# Altium integrated library STM32_BluePill_1v0.IntLib: 18 symbols
Pins are listed as number, name and electrical type; pins without a type are passive.

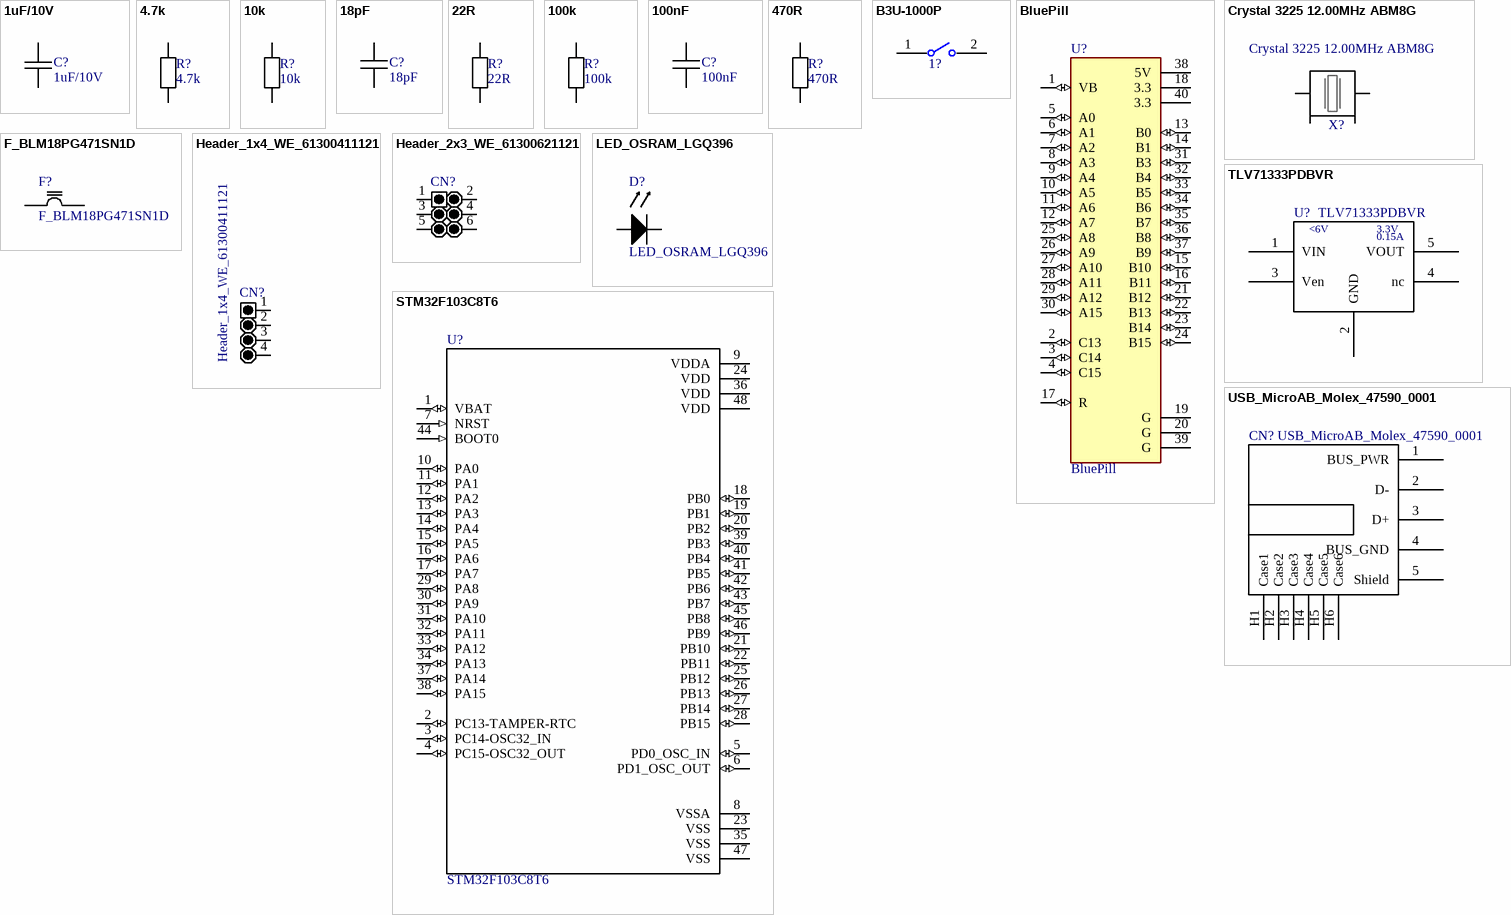
[diagram p0: symbols 1uF/10V to USB_MicroAB_Molex_47590_0001]

## 1uF/10V
designator C?
CAP CER 1UF 10V X5R 0603; Manufacturer: Murata; Manufacturer Part Number: GRM188R61A105KA61D; Library: S_C_1608_MURATA_GRM_X5R; HelpURL: D:\MPA_ALTIUM_LIB\Released\SCH_Passive\Datasheet\Murata_Caps.pdf; Rev: 2.1; Supplier 1: Digikey; Supplier Part Number 1: 490-1543-2-ND; Supplier 2: Farnell; Supplier Part Number 2: 1828798RL; Supplier Part Number 3: 81-GRM39R105K10; Supplier 3: Mouser
footprint CAPC1608_08 (Chip Capacitor, Body 1.6x0.8x0.8mm)
pins: 1, 2

## 4.7k
designator R?
RES 4.7k OHM 1/10W 1% 0603 SMD; Manufacturer: Yageo; Manufacturer Part Number: RC0603FR-074K7L; Library: S_R_1608_Yaego_RC; HelpURL: D:\MPA_ALTIUM_LIB\Released\SCH_Passive\Datasheet\YAEGO_resistor.pdf; Rev: 2.1; Supplier 1: Digikey; Supplier Part Number 1: 311-4.70KHRTR-ND; Supplier 2: Farnell; Supplier Part Number 2: 9238565; Supplier Part Number 3: 603-RC0603FR-074K7L; Supplier 3: Mouser
footprint RES1608_04 (Thick Film Resistor, Body 1.6x0.8x0.45mm)
pins: 1, 2

## 10k
designator R?
RES 10.0K OHM 1/10W 1% 0603 SMD; Manufacturer: Panasonic - ECG; Manufacturer Part Number: ERJ-3EKF1002V; Power (Watts): 0.1W, 1/10W; Temperature Coefficient: ±100ppm/°C; Power Rating: 100 mW; Resistance: 10 kOhms; Voltage Rating: 75 V; Brand: Panasonic; Case Height: 0.45 mm; Case Length: 1.6 mm; Case Width: 0.8 mm; Library: S_R_1608_Panasonic_ERJ; HelpURL: D:\MPA_ALTIUM_LIB\Released\SCH_Passive\Datasheet\Panasonic_ERJ.pdf; Rev: 2.0; Supplier 1: Digi-Key; Supplier Part Number 1: P10.0KHCT-ND; Pricing 1: 1=0.08, 50=0.0124, 100=0.0094, 250=0.00692, 500=0.00512, 1000=0.00342, 2500=0.00289 (EUR); Packaging: Cut Tape (CT); Resistance (Ohms): 10k; Tolerance: ±1%; Composition: Thick Film; Features: -; Package / Case: 0603 (1608 Metric); Supplier Device Package: 0603; Size / Dimension: 0.063" L x 0.031" W (1.60mm x 0.80mm); Height: 0.022" (0.55mm); Number of Terminations: 2; ComponentLink1URL: http://industrial.panasonic.com/www-cgi/jvcr13pz.cgi?E+PZ+3+AOA0002+ERJ3EKF1002V+7+WW; ComponentLink1Description: http://industrial.panasonic.com/www-cgi/jvcr13pz.cgi?E+PZ+3+AOA0002+ERJ3EKF1002V+7+WW; Supplier 2: Farnell; Supplier Part Number 2: 2303192; Pricing 2: 5=0,0538, 50=0,0113, 100=0,0088, 500=0,005, 1000=0,0038, 5000=0,0025 (EUR); ComponentLink2URL: http://www.farnell.com/datasheets/1678782.pdf; ComponentLink2Description: http://www.farnell.com/datasheets/1678782.pdf; ComponentLink3URL: http://www.farnell.com/datasheets/1718548.pdf; ComponentLink3Description: http://www.farnell.com/datasheets/1718548.pdf; Supplier Part Number 3: 667-ERJ-3EKF1002V; Pricing 3: 1=0.080, 10=0.011, 100=0.007, 500=0.006, 1000=0.003, 5000=0.003 (EUR); Operating Temperature Range: - 55 C to + 155 C; Package/Case: 0603 (1608 metric); Product: Thick Film Resistors SMD; Series: ERJ; Type: Precision Thick Film Resistors SMD; Case Code - in: 0603; Case Code - mm: 1608; Standard Pack Qty: 5000; RoHS - Mouser: E; Minimum Order Quantity: 1; Reeling: True; ComponentLink4URL: http://industrial.panasonic.com/www-data/pdf/AOA0000/AOA0000CE2.pdf; ComponentLink4Description: http://industrial.panasonic.com/www-data/pdf/AOA0000/AOA0000CE2.pdf
footprint RES1608_04 (Thick Film Resistor, Body 1.6x0.8x0.45mm)
pins: 1, 2

## 18pF
designator C?
CAP CER 18PF 50V 5% C0G 0603; Manufacturer: Murata Electronics North America; Manufacturer Part Number: GRM1885C1H180JA01D; Temperature Coefficient: C0G, NP0; Type: General Purpose MLCC; Brand: Murata Electronics; Case Height: 0.8 mm; Case Length: 1.6 mm; Dielectric: C0G (NP0); Temperature Coefficient / Code: +/- 30 PPM / C; Library: S_C_1608_MURATA_GRM; HelpURL: D:\MPA_ALTIUM_LIB\Released\SCH_Passive\Datasheet\Murata_Caps.pdf; Supplier 1: Digi-Key; Supplier Part Number 1: 490-1409-1-ND; Pricing 1: 100=0.0306, 500=0.01632, 1000=0.01105 (USD); Capacitance: 18pF; Voltage - Rated: 50V; Tolerance: ±5%; Mounting Type: Surface Mount, MLCC; Operating Temperature: -55°C ~ 125°C; Features: -; Applications: General Purpose; Ratings: -; Package / Case: 0603 (1608 Metric); Size / Dimension: 0.063" L x 0.031" W (1.60mm x 0.80mm); Lead Spacing: -; Packaging: Cut Tape (CT); Lead Style: -; ComponentLink1URL: http://search.murata.co.jp/Ceramy/image/img/PDF/ENG/GRM1885C1H180JA01.pdf; ComponentLink1Description: http://search.murata.co.jp/Ceramy/image/img/PDF/ENG/GRM1885C1H180JA01.pdf; Supplier 2: Farnell; Supplier Part Number 2: 1828908RL; Pricing 2: 10=0,03, 100=0,022, 500=0,017, 1000=0,012, 4000=0,01, 6000=0,009 (EUR); ComponentLink2URL: http://www.farnell.com/datasheets/608985.pdf; ComponentLink2Description: http://www.farnell.com/datasheets/608985.pdf; Supplier Part Number 3: 81-GRM39C180J50; Pricing 3: 1=0.135, 10=0.031, 100=0.019, 1000=0.015, 4000=0.011, 8000=0.009 (AUD); Operating Temperature Range: - 55 C to + 125 C; Product: General Type MLCCs; Series: GRM; Termination Style: SMD/SMT; Voltage Rating: 50 V; Voltage Rating DC: 50 V; Case Code - in: 0603; Case Code - mm: 1608; Case Width: 0.8 mm; Maximum Operating Temperature: + 125 C; Minimum Operating Temperature: - 55 C; Product Category: Low & Medium Capacitance SMD Ceramic Chip Capacitors; Standard Pack Qty: 4000; RoHS - Mouser: Y; Minimum Order Quantity: 1; Reeling: True; ComponentLink3URL: http://psearch.murata.com/capacitor/product/GRM1885C1H180JA01%23.pdf; ComponentLink3Description: http://psearch.murata.com/capacitor/product/GRM1885C1H180JA01%23.pdf; Rev: 2.0
footprint CAPC1608_08 (Chip Capacitor, Body 1.6x0.8x0.8mm)
pins: 1, 2

## 22R
designator R?
RES 22R OHM 1/10W 1% 0603 SMD; Manufacturer: Yageo; Manufacturer Part Number: RC0603FR-0722RL; Library: S_R_1608_Yaego_RC; HelpURL: D:\MPA_ALTIUM_LIB\Released\SCH_Passive\Datasheet\YAEGO_resistor.pdf; Rev: 2.1; Supplier 1: Digikey; Supplier Part Number 1: 311-22.0HRTR-ND; Supplier 2: Farnell; Supplier Part Number 2: 9238280; Supplier Part Number 3: 603-RC0603FR-0722RL; Supplier 3: Mouser
footprint RES1608_04 (Thick Film Resistor, Body 1.6x0.8x0.45mm)
pins: 1, 2

## 100k
designator R?
RES 100K OHM 1/10W 1% 0603 SMD; Manufacturer: Panasonic - ECG; Manufacturer Part Number: ERJ-3EKF1003V; Power (Watts): 0.1W, 1/10W; Temperature Coefficient: ±100ppm/°C; Produktpalette: PANASONIC - ERJ Series; Widerstand: 100; Bauform: 0603 [Metrisch 1608]; Widerstandselement: Dickschicht; Temperaturkoeffizient: ± 100; Nennspannung: 75; Verpackung: Gurtabschnitt; SVHC: No SVHC (16-Dec-2013); Power Rating: 100 mW; Resistance: 100 kOhms; Voltage Rating: 75 V; Brand: Panasonic; Case Height: 0.45 mm; Case Length: 1.6 mm; Case Width: 0.8 mm; Library: S_R_1608_Panasonic_ERJ; HelpURL: D:\MPA_ALTIUM_LIB\Released\SCH_Passive\Datasheet\Panasonic_ERJ.pdf; Rev: 2.0; Supplier 1: Digi-Key; Supplier Part Number 1: P100KHCT-ND; Pricing 1: 1=0.08, 50=0.0124, 100=0.0094, 250=0.00692, 500=0.00512, 1000=0.00342, 2500=0.00289 (EUR); Packaging: Cut Tape (CT); Resistance (Ohms): 100k; Tolerance: ±1%; Composition: Thick Film; Features: -; Package / Case: 0603 (1608 Metric); Supplier Device Package: 0603; Size / Dimension: 0.063" L x 0.031" W (1.60mm x 0.80mm); Height: 0.022" (0.55mm); Number of Terminations: 2; ComponentLink1URL: http://industrial.panasonic.com/www-cgi/jvcr13pz.cgi?E+PZ+3+AOA0002+ERJ3EKF1003V+7+WW; ComponentLink1Description: http://industrial.panasonic.com/www-cgi/jvcr13pz.cgi?E+PZ+3+AOA0002+ERJ3EKF1003V+7+WW; Supplier 2: Farnell; Supplier Part Number 2: 2303232; Pricing 2: 5=0,0538, 50=0,0113, 100=0,0088, 500=0,005, 1000=0,0038, 5000=0,0025 (EUR); Nennleistung: 100; Widerstandstoleranz: ± 1%; MSL: -; ComponentLink2URL: http://www.farnell.com/datasheets/1678782.pdf; ComponentLink2Description: http://www.farnell.com/datasheets/1678782.pdf; ComponentLink3URL: http://www.farnell.com/datasheets/1718548.pdf; ComponentLink3Description: http://www.farnell.com/datasheets/1718548.pdf; Supplier Part Number 3: 667-ERJ-3EKF1003V; Pricing 3: 1=0.080, 10=0.011, 100=0.007, 500=0.006, 1000=0.003, 5000=0.003 (EUR); Operating Temperature Range: - 55 C to + 155 C; Package/Case: 0603 (1608 metric); Product: Thick Film Resistors SMD; Series: ERJ; Type: Precision Thick Film Resistors SMD; Case Code - in: 0603; Case Code - mm: 1608; Standard Pack Qty: 5000; RoHS - Mouser: E; Minimum Order Quantity: 1; Reeling: True; ComponentLink4URL: http://industrial.panasonic.com/www-data/pdf/AOA0000/AOA0000CE2.pdf; ComponentLink4Description: http://industrial.panasonic.com/www-data/pdf/AOA0000/AOA0000CE2.pdf
footprint RES1608_04 (Thick Film Resistor, Body 1.6x0.8x0.45mm)
pins: 1, 2

## 100nF
designator C?
CAP CER .1UF 25V 10% X7R 0603; Manufacturer: Murata Electronics North America; Manufacturer Part Number: GRM188R71E104KA01D; Capacitance: 0.1µF; Type: General Purpose MLCC; Brand: Murata Electronics; Case Height: 0.8 mm; Case Length: 1.6 mm; Temperature Coefficient/Code: +/- 15 %; Library: S_C_1608_MURATA_GRM; HelpURL: D:\MPA_ALTIUM_LIB\Released\SCH_Passive\Datasheet\Murata_Caps.pdf; Rev: 2.0; Supplier 1: Digi-Key; Supplier Part Number 1: 490-1524-1-ND; Pricing 1: 1=0.32, 10=0.061, 50=0.0332, 100=0.028, 250=0.02296, 500=0.01964, 1000=0.01529 (EUR); Packaging: Cut Tape (CT); Tolerance: ±10%; Voltage - Rated: 25V; Temperature Coefficient: X7R; Mounting Type: Surface Mount, MLCC; Operating Temperature: -55°C ~ 125°C; Applications: General Purpose; Ratings: -; Package / Case: 0603 (1608 Metric); Size / Dimension: 0.063" L x 0.031" W (1.60mm x 0.80mm); Height - Seated (Max): -; Thickness (Max): 0.035" (0.90mm); Lead Spacing: -; Features: -; Lead Style: -; ComponentLink1URL: http://search.murata.co.jp/Ceramy/image/img/A01X/G101/ENG/GRM188R71E104KA01-01.pdf; ComponentLink1Description: http://search.murata.co.jp/Ceramy/image/img/A01X/G101/ENG/GRM188R71E104KA01-01.pdf; Supplier 2: Farnell; Supplier Part Number 2: 1828899RL; Pricing 2: 10=0,047, 100=0,027, 500=0,022, 1000=0,017, 4000=0,012, 20000=0,011 (EUR); ComponentLink2URL: http://www.farnell.com/datasheets/1747454.pdf; ComponentLink2Description: http://www.farnell.com/datasheets/1747454.pdf; Supplier Part Number 3: 81-GRM39X104K25; Pricing 3: 1=0.080, 10=0.010, 100=0.006, 1000=0.005, 4000=0.004, 8000=0.003, 48000=0.002 (EUR); Operating Temperature Range: - 55 C to + 125 C; Package/Case: 0603 (1608 metric); Product: General Type MLCCs; Series: GRM; Termination Style: SMD/SMT; Voltage Rating: 25 V; Voltage Rating DC: 25 V; Case Code - in: 0603; Case Code - mm: 1608; Case Width: 0.8 mm; Dielectric: X7R; Maximum Operating Temperature: + 125 C; Minimum Operating Temperature: - 55 C; Product Category: Low & Medium Capacitance SMD Ceramic Chip Capacitors; Standard Pack Qty: 4000; RoHS - Mouser: Y; Minimum Order Quantity: 1; Reeling: True; ComponentLink3URL: http://psearch.murata.com/capacitor/product/GRM188R71E104KA01%23.pdf; ComponentLink3Description: http://psearch.murata.com/capacitor/product/GRM188R71E104KA01%23.pdf
footprint CAPC1608_08 (Chip Capacitor, Body 1.6x0.8x0.8mm)
pins: 1, 2

## 470R
designator R?
RES 470 OHM 1/10W 1% 0603 SMD; Manufacturer: Panasonic - ECG; Manufacturer Part Number: ERJ-3EKF4700V; Resistance (Ohms): 470; Power (Watts): 0.1W, 1/10W; Temperature Coefficient: ±100ppm/°C; Power Rating: 100 mW; Resistance: 470 Ohms; Voltage Rating: 75 V; Brand: Panasonic; Case Height: 0.45 mm; Case Length: 1.6 mm; Case Width: 0.8 mm; Library: S_R_1608_Panasonic_ERJ; HelpURL: D:\MPA_ALTIUM_LIB\Released\SCH_Passive\Datasheet\Panasonic_ERJ.pdf; Rev: 2.0; Supplier 1: Digi-Key; Supplier Part Number 1: P470HCT-ND; Pricing 1: 1=0.08, 50=0.0124, 100=0.0094, 250=0.00692, 500=0.00512, 1000=0.00342, 2500=0.00289 (EUR); Packaging: Cut Tape (CT); Tolerance: ±1%; Composition: Thick Film; Features: -; Package / Case: 0603 (1608 Metric); Supplier Device Package: 0603; Number of Terminations: 2; ComponentLink1URL: http://industrial.panasonic.com/www-cgi/jvcr13pz.cgi?E+PZ+3+AOA0002+ERJ3EKF4700V+7+WW; ComponentLink1Description: http://industrial.panasonic.com/www-cgi/jvcr13pz.cgi?E+PZ+3+AOA0002+ERJ3EKF4700V+7+WW; Supplier 2: Farnell; Supplier Part Number 2: 2303120; Pricing 2: 5=0,0538, 50=0,0113, 100=0,0088, 500=0,005, 1000=0,0038, 5000=0,0025 (EUR); ComponentLink2URL: http://www.farnell.com/datasheets/1678782.pdf; ComponentLink2Description: http://www.farnell.com/datasheets/1678782.pdf; ComponentLink3URL: http://www.farnell.com/datasheets/1718548.pdf; ComponentLink3Description: http://www.farnell.com/datasheets/1718548.pdf; Supplier Part Number 3: 667-ERJ-3EKF4700V; Pricing 3: 1=0.080, 10=0.012, 100=0.006, 500=0.005, 1000=0.003, 5000=0.003 (EUR); Operating Temperature Range: - 55 C to + 155 C; Package/Case: 0603 (1608 metric); Product: Thick Film Resistors SMD; Series: ERJ; Type: Precision Thick Film Resistors SMD; Case Code - in: 0603; Case Code - mm: 1608; Standard Pack Qty: 5000; RoHS - Mouser: E; Minimum Order Quantity: 1; Reeling: True; ComponentLink4URL: http://industrial.panasonic.com/www-data/pdf/AOA0000/AOA0000CE2.pdf; ComponentLink4Description: http://industrial.panasonic.com/www-data/pdf/AOA0000/AOA0000CE2.pdf
footprint RES1608_04 (Thick Film Resistor, Body 1.6x0.8x0.45mm)
pins: 1, 2

## B3U-1000P
designator 1?  (value not drawn)
Manufacturer: Omron; Mechanical Life: 200000Cycles; Operating Force: 1.5N; Throw Configuration: SPST; Voltage Rating (DC): 12V; Current Rating: 50mA; Switch Travel: 0.15mm; Switch Function: Off-Mom; Contact Resistance: 100mR; Actuator Type: Standard; Illumination Type: Non-Illuminated,Illuminated; Actuator Length: 0.4mm; Ratings: Dust Proof,IP40; Supplier 1: Digi-Key; Supplier Part Number 1: SW1020DKR-ND; Manufacturer Part Number: B3U-1000P; Stock: 37017; Pricing 1: 1=0.98000, 10=0.94300, 25=0.88120, 100=0.76500, 250=0.69612, 500=0.64536, 1000=0.59822 (USD); RoHS: Yes; Mount: Surface Mount; Weight: 0.000776oz; Contact Material: Silver; Min Operating Temperature: -25°C; Max Operating Temperature: 70°C; Packaging: Tape and Reel; Package Quantity: 1; Orientation: Straight; Max Current Rating: 50mA; Termination: SMD/SMT; Max Voltage Rating (DC): 12V; Electrical Life: 200000Cycles; Insulation Resistance: 100MR; Contact Current Rating: 50mA; Length: 4mm; Height: 1.2mm; Depth: 2.5mm; Width: 3mm; Lead Free: Lead Free; REACH SVHC: Unknown; ComponentLink1URL: https://datasheet.ciiva.com/26917/getdatasheetpartid-552554-26917552.pdf?src-supplier=Verical; ComponentLink1Description: https://datasheet.ciiva.com/26917/getdatasheetpartid-552554-26917552.pdf?src-supplier=Verical; ComponentLink2URL: https://datasheet.ciiva.com/22696/1685550-22696214.pdf?src-supplier=Element14; ComponentLink2Description: https://datasheet.ciiva.com/22696/1685550-22696214.pdf?src-supplier=Element14; ComponentLink3URL: https://datasheet.ciiva.com/1532/1685550-1532680.pdf?src-supplier=Element14; ComponentLink3Description: https://datasheet.ciiva.com/1532/1685550-1532680.pdf?src-supplier=Element14; ComponentLink4URL: https://datasheet.ciiva.com/1634/1685550-1634396.pdf?src-supplier=Farnell; ComponentLink4Description: https://datasheet.ciiva.com/1634/1685550-1634396.pdf?src-supplier=Farnell; ComponentLink5URL: https://datasheet.ciiva.com/14142/b3u-eng-datasheet-14142540.pdf?src-supplier=Distrelec; ComponentLink5Description: https://datasheet.ciiva.com/14142/b3u-eng-datasheet-14142540.pdf?src-supplier=Distrelec; ComponentLink6URL: https://datasheet.ciiva.com/2900/b3u-1110-2900029.pdf?src-supplier=Digi-Key; ComponentLink6Description: https://datasheet.ciiva.com/2900/b3u-1110-2900029.pdf?src-supplier=Digi-Key; ComponentLink7URL: https://datasheet.ciiva.com/16155/en-b3u-16155021.pdf?src-supplier=Onlinecomponents.com; ComponentLink7Description: https://datasheet.ciiva.com/16155/en-b3u-16155021.pdf?src-supplier=Onlinecomponents.com; ComponentLink8URL: https://datasheet.ciiva.com/2900/b3u-1110-2900030.pdf?src-supplier=Digi-Key; ComponentLink8Description: https://datasheet.ciiva.com/2900/b3u-1110-2900030.pdf?src-supplier=Digi-Key; ComponentLink9URL: https://datasheet.ciiva.com/16862/70176037-16862846.pdf?src-supplier=Allied+Electronics; ComponentLink9Description: https://datasheet.ciiva.com/16862/70176037-16862846.pdf?src-supplier=Allied+Electronics; ComponentLink10URL: https://datasheet.ciiva.com/2900/b3u-1110-2900031.pdf?src-supplier=Digi-Key; ComponentLink10Description: https://datasheet.ciiva.com/2900/b3u-1110-2900031.pdf?src-supplier=Digi-Key; Supplier 2: Farnell; Supplier Part Number 2: 2500851; Supplier 3: Mouser; Supplier Part Number 3: 653-B3U-1000P
footprint Omron_B3U-1000P_M_0
pins: 1, 2

## BluePill
designator U?
STM32F103C8T6 ARM STM32 Minimum System Development Board Module For Arduino; MP: ZC323000; MF: YKS; Package: None; Availability: Unavailable; SnapEDA_Link: https://www.snapeda.com/parts/ZC323000/YKS/view-part/725364/?ref=snap; Value: *; Price: None
footprint BluePill
pins: 1 VB (io), 2 C13 (io), 3 C14 (io), 4 C15 (io), 5 A0 (io), 6 A1 (io), 7 A2 (io), 8 A3 (io), 9 A4 (io), 10 A5 (io), 11 A6 (io), 12 A7 (io), 13 B0 (io), 14 B1 (io), 15 B10 (io), 16 B11 (io), 17 R (io), 18 3.3 (power), 19 G (power), 20 G (power), 21 B12 (io), 22 B13 (io), 23 B14 (io), 24 B15 (io), 25 A8 (io), 26 A9 (io), 27 A10 (io), 28 A11 (io), 29 A12 (io), 30 A15 (io), 31 B3 (io), 32 B4 (io), 33 B5 (io), 34 B6 (io), 35 B7 (io), 36 B8 (io), 37 B9 (io), 38 5V (power), 39 G (power), 40 3.3 (power)

## Crystal 3225 12.00MHz ABM8G
designator X?
CRYSTAL 12MHZ 18PF SMD; Manufacturer: Abracon Corporation; Manufacturer Part Number: ABM8G-12.000MHZ-18-D2Y-T; Frequency Stability: ±30ppm; Frequency Tolerance: ±20ppm; ESR (Equivalent Series Resistance): 120 Ohm; Operating Mode: Fundamental; Frequenz: 12; Frequenztoleranz: ± 20; Belastungskapazität: 18; Frequenzstabilität: ±30; Betriebstemperatur, min.: -40; Betriebstemperatur, max.: 85; Quarzmontage: Oberflächenmontage; Quarzgehäuse: 3.2mm x 2.5; Anzahl der Pins: 4; Verpackung: Gurtabschnitt<!--FANDB--><div class="features-and-benefits-container"></div>; Tolerance: 20 PPM; Brand: ABRACON; ESR: 120 Ohms; Library: S_Crystal; HelpURL: D:\MPA_ALTIUM_LIB\Released\SCH_Passive\Datasheet\ABM8G-10572.pdf; Rev: 2.0; Supplier 1: Digi-Key; Supplier Part Number 1: 535-10261-1-ND; Pricing 1: 1=0.87, 10=0.776, 50=0.7246, 100=0.6412, 500=0.60592 (EUR); Packaging: Cut Tape (CT); Type: MHz Crystal; Frequency: 12MHz; Load Capacitance: 18pF; Operating Temperature: -40°C ~ 85°C; Ratings: -; Mounting Type: Surface Mount; Package / Case: 4-SMD, No Lead (DFN, LCC); Size / Dimension: 0.126" L x 0.098" W (3.20mm x 2.50mm); Height: 0.039" (1.00mm); ComponentLink1URL: http://www.abracon.com/Resonators/ABM8G.pdf; ComponentLink1Description: http://www.abracon.com/Resonators/ABM8G.pdf; Supplier 2: Farnell; Supplier Part Number 2: 2308709; Pricing 2: 1=1,94, 10=1,51, 50=1,15, 100=0,879, 500=0,783, 1000=0,623, 1000=0,561, 6000=0,505 (EUR); ComponentLink2URL: http://www.farnell.com/datasheets/1750120.pdf; ComponentLink2Description: http://www.farnell.com/datasheets/1750120.pdf; Supplier Part Number 3: 815-ABM8G-12-18D2Y; Pricing 3: 1=0.848, 10=0.755, 50=0.705, 100=0.624, 500=0.560, 1000=0.437, 2000=0.424, 5000=0.406, 10000=0.390 (EUR); Dimensions: 2.5 mm W x 3.2 mm L x 1 mm H; Operating Temperature Range: - 40 C to + 85 C; Package/Case: 3.2 mm x 2.5 mm; Series: ABM8G; Termination Style: SMD/SMT; Mounting Style: SMD/SMT; Product Category: SMD Crystals; Standard Pack Qty: 1000; RoHS - Mouser: Y; Minimum Order Quantity: 1; Reeling: True; ComponentLink3URL: http://www.mouser.com/ds/2/3/ABM8G-10572.pdf; ComponentLink3Description: http://www.mouser.com/ds/2/3/ABM8G-10572.pdf
footprint 3225_XTAL_ABM8G (Crystal 3225)
pins: 1, 2, 3, 4

## F_BLM18PG471SN1D
designator F?
FERRITE CHIP 470 OHM 1000MA 0603; Manufacturer: Murata Electronics North America; Help_URL: D:\MPA_ALTIUM_LIB\Released\SCH_Passive\Datasheet\Murata_BLM18P.pdf; Impedance @ Frequency: 470 Ohm @ 100MHz; Current Rating: 1A; DC Resistance (DCR): 200 mOhm Max; Filter Type: Differential Mode - Single; Number of Lines: 1; Impedance: 470 Ohms; Maximum DC Current: 1 A; Maximum DC Resistance: 200 mOhms; Tolerance: 25 %; Brand: Murata Electronics; Case Height: 0.8 mm; Case Length: 1.6 mm; Test Frequency: 100 MHz; Library: S_L_T; Supplier 1: Digi-Key; Supplier Part Number 1: 490-5223-1-ND; Manufacturer Part Number: BLM18PG471SN1D; Pricing 1: 25=0.1932, 100=0.1104, 250=0.07936, 500=0.05658, 1000=0.0414 (USD); Package / Case: 0603 (1608 Metric); Mounting Type: Surface Mount; Packaging: Cut Tape (CT); ComponentLink1URL: http://search.murata.co.jp/Ceramy/image/img/PDF/ENG/L0110S0100BLM18P.pdf; ComponentLink1Description: http://search.murata.co.jp/Ceramy/image/img/PDF/ENG/L0110S0100BLM18P.pdf; Rev: 2.0; Supplier 2: Farnell; Supplier Part Number 2: 1515745; Pricing 2: 5=0,052, 50=0,051, 100=0,049, 250=0,043, 500=0,039, 2000=0,035 (EUR); ComponentLink2URL: http://www.farnell.com/datasheets/1740433.pdf; ComponentLink2Description: http://www.farnell.com/datasheets/1740433.pdf; Supplier Part Number 3: 81-BLM18PG471SN1D; Pricing 3: 1=0.088, 10=0.054, 100=0.026, 1000=0.022, 4000=0.018, 8000=0.016, 24000=0.014 (EUR); Capacitance: -; Dimensions: 0.8 mm W x 1.6 mm L x 0.8 mm H; Operating Temperature Range: - 55 C to + 125 C; Package/Case: 0603 (1608 metric); Product: Ferrite Chip Beads; Termination Style: SMD/SMT; Case Width: 0.8 mm; Product Category: SMD EMI Filters/Chip Ferrite Beads; Standard Pack Qty: 4000; RoHS - Mouser: Y; Minimum Order Quantity: 1; Reeling: True; ComponentLink3URL: http://www.mouser.com/ds/2/281/Murata BL Series-202933.pdf; ComponentLink3Description: http://www.mouser.com/ds/2/281/Murata BL Series-202933.pdf
footprint IND1608_08 (Chip Inductor, Body 1.6x0.8x0.8mm)
pins: 1, 2

## Header_1x4_WE_61300411121
designator CN?
WE_61300411121; Manufacturer: Wurth Electronics Inc; Connector Type: Header, Unshrouded; Library: S_CONN_Board2Board; Text: *; Supplier 1: Digi-Key; Supplier Part Number 1: 732-5317-ND; Manufacturer Part Number: 61300411121; Pricing 1: 1=0.16, 100=0.146, 500=0.12354 (EUR); ComponentLink1URL: http://katalog.we-online.de/em/datasheet/6130xx11121.pdf; ComponentLink1Description: http://katalog.we-online.de/em/datasheet/6130xx11121.pdf; Supplier 2: Farnell; Supplier Part Number 2: 2356155; Pricing 2: 1=0,216, 10=0,153, 50=0,112, 100=0,107, 250=0,093, 1000=0,078, 1000=0,069, 5000=0,063 (EUR); Rev: 2.0
footprint Header_1x4
footprint Header_1x4_EMPTY
pins: 1, 2, 3, 4

## Header_2x3_WE_61300621121
designator CN?  (value not drawn)
CONN HEADER VERT DUAL 6POS 2.54; Manufacturer: Wurth Electronics Inc; Library: S_CONN_Board2Board; Connector Type: Header, Unshrouded; Rev: 2.0; Supplier 1: Digi-Key; Supplier Part Number 1: 732-5295-ND; Manufacturer Part Number: 61300621121; Pricing 1: 1=0.51, 100=0.455, 500=0.38508 (EUR); ComponentLink1URL: http://katalog.we-online.de/em/datasheet/6130xx21121.pdf; ComponentLink1Description: http://katalog.we-online.de/em/datasheet/6130xx21121.pdf; Supplier 2: Farnell; Supplier Part Number 2: 2356131; Pricing 2: 1=0,63, 10=0,43, 50=0,34, 100=0,32, 250=0,29, 1000=0,233, 1000=0,209, 5000=0,186 (EUR); Text: *
footprint Header_2x3
footprint Header_2x3
pins: 1, 2, 3, 4, 5, 6

## LED_OSRAM_LGQ396
designator D?
LED 10mA 573NM GREEN 0603 SMD; Manufacturer: Osram / OSRAM Opto Semiconductors; Manufacturer Part Number: LGQ396-PS-35; Library: S_OPTO; Luminous Intensity: 163mcd; HelpURL: D:\MPA_ALTIUM_LIB\Released\SCH_Semicon\Datasheet\LGQ396.pdf; Rev: 2.0; Supplier 1: Digikey; Supplier Part Number 1: LG Q396-PS-35-ND; Pricing 1: 32000=0.0474 (USD); Packaging: Tape and Reel; Wavelength: 573nm; ComponentLink1URL: http://www.farnell.com/datasheets/2057314.pdf; ComponentLink1Description: http://www.farnell.com/datasheets/2057314.pdf; Supplier 2: Farnell; Supplier Part Number 2: 2575345RL; Supplier Part Number 3: 720-LGQ396A3964; Pricing 3: 1=0.19, 10=0.123, 50=0.123, 100=0.106, 1000=0.063, 10000=0.048 (USD)
footprint LED1608_04_GREEN (Chip LED, Body 1.6x0.8x0.4mm)
pins: 1 a, 2 k

## STM32F103C8T6
designator U?
MCU ARM 64KB FLASH 48LQFP; Manufacturer: STMicroelectronics; RAM Size: 20KB; Frequency: 72MHz; Max Power Dissipation: 363mW; Interface: I2C,SPI,USB,CAN,IrDA,UART,USART,LIN; Number of I/Os: 37; Number of Timers/Counters: 4; Max Supply Voltage: 3.6V; Number of ADC Channels: 10; Min Supply Voltage: 2V; Oscillator Type: Internal; Number of Programmable I/O: 48; Data Bus Width: 32b; Number of Bits: 32; Watchdog Timer: Yes; Peripherals: POR,PWM,WDT,DMA,Temp Sensor,I2C; Number of PWM Channels: 1; Number of SPI Channels: 2; Supplier 1: Digi-Key; Supplier Part Number 1: 497-6063-ND; Manufacturer Part Number: STM32F103C8T6; Stock: 1021; Pricing 1: 1=4.94000, 10=4.43700, 25=4.19480, 100=3.63540, 250=3.44896, 500=3.09474, 1000=2.61002, 2500=2.47952, 5000=2.38630 (USD); RoHS: Yes; Case/Package: LQFP; Number of Pins: 48; Min Operating Temperature: -40°C; Max Operating Temperature: 85°C; Packaging: Tray; Package Quantity: 250; Density: 64KB; Memory Type: FLASH; Max Frequency: 72MHz; Memory Size: 64KB; Core Architecture: ARM; Termination: SMD/SMT; Number of I2C Channels: 2; Address Bus Width: 32b; Length: 7mm; Height: 1.45mm; Width: 7.2mm; Radiation Hardening: No; Lead Free: Lead Free; REACH SVHC: No SVHC; ComponentLink1URL: https://datasheet.ciiva.com/15122/getdatasheetpartid-69880-15122076.pdf?src-supplier=Verical; ComponentLink1Description: https://datasheet.ciiva.com/15122/getdatasheetpartid-69880-15122076.pdf?src-supplier=Verical; ComponentLink2URL: https://datasheet.ciiva.com/26816/stm32f103c8t6-26816902.pdf?src-supplier=IIIC; ComponentLink2Description: https://datasheet.ciiva.com/26816/stm32f103c8t6-26816902.pdf?src-supplier=IIIC; ComponentLink3URL: https://datasheet.ciiva.com/16210/cd00161566-16210248.pdf?src-supplier=Future+Electronics; ComponentLink3Description: https://datasheet.ciiva.com/16210/cd00161566-16210248.pdf?src-supplier=Future+Electronics; ComponentLink4URL: https://datasheet.ciiva.com/14100/pustm-arm-microcont-stm32f103-en-14100508.pdf?src-supplier=Distrelec; ComponentLink4Description: https://datasheet.ciiva.com/14100/pustm-arm-microcont-stm32f103-en-14100508.pdf?src-supplier=Distrelec; ComponentLink5URL: https://datasheet.ciiva.com/8054/1730126-8054942.pdf?src-supplier=Element14; ComponentLink5Description: https://datasheet.ciiva.com/8054/1730126-8054942.pdf?src-supplier=Element14; ComponentLink6URL: https://datasheet.ciiva.com/48687/001075658-da-01-en-mcu-64kb-mem-stm32f103c8t6-lqfp-48-stm-48687589.pdf?src-supplier=Conrad; ComponentLink6Description: https://datasheet.ciiva.com/48687/001075658-da-01-en-mcu-64kb-mem-stm32f103c8t6-lqfp-48-stm-48687589.pdf?src-supplier=Conrad
footprint LQFP48 (48-Lead Plastic LQFP 7x7x1.6mm Body)
pins: 1 VBAT (io), 2 PC13-TAMPER-RTC (io), 3 PC14-OSC32_IN (io), 4 PC15-OSC32_OUT (io), 5 PD0_OSC_IN (io), 6 PD1_OSC_OUT (io), 7 NRST (in), 8 VSSA (power), 9 VDDA (power), 10 PA0 (io), 11 PA1 (io), 12 PA2 (io), 13 PA3 (io), 14 PA4 (io), 15 PA5 (io), 16 PA6 (io), 17 PA7 (io), 18 PB0 (io), 19 PB1 (io), 20 PB2 (io), 21 PB10 (io), 22 PB11 (io), 23 VSS (power), 24 VDD (power), 25 PB12 (io), 26 PB13 (io), 27 PB14 (io), 28 PB15 (io), 29 PA8 (io), 30 PA9 (io), 31 PA10 (io), 32 PA11 (io), 33 PA12 (io), 34 PA13 (io), 35 VSS (power), 36 VDD (power), 37 PA14 (io), 38 PA15 (io), 39 PB3 (io), 40 PB4 (io), 41 PB5 (io), 42 PB6 (io), 43 PB7 (io), 44 BOOT0 (in), 45 PB8 (io), 46 PB9 (io), 47 VSS (power), 48 VDD (power)

## TLV71333PDBVR
designator U?
LDO 3.3V 150mA low Iq SOT23-5; Manufacturer: Texas Instruments; Library: S_IC_Pwr; Max Input Voltage: 5.5V; Dropout Voltage: 230mV; Min Input Voltage: 1.4V; Number of Outputs: 1; Min Current Limit: 180mA; Polarity: Positive; Accuracy: 1%; Power Supply Rejection Ratio (PSRR): 70dB; Quiescent Current: 50uA; HelpURL: D:\MPA_ALTIUM_LIB\Released\SCH_IC\Datasheet\TLV713xx.pdf; ComponentLink1URL: http://focus.ti.com/lit/ds/symlink/tps73001.pdf; ComponentLink1Description: http://focus.ti.com/lit/ds/symlink/tps73001.pdf; Supplier 1: Digi-Key; Supplier Part Number 1: 296-35591-6-ND; Manufacturer Part Number: TLV71333PDBVR; Pricing 1: 1=0.42, 10=0.339, 100=0.2307, 500=0.17304, 1000=0.12978 (USD); Mount: Surface Mount; Case/Package: SOT-23; Number of Pins: 5; Min Operating Temperature: -40°C; Max Operating Temperature: 125°C; Packaging: Tape and Reel; Output Current: 150mA; Output Voltage: 3.3V; Package Quantity: 1; Max Output Current: 150mA; Number of Regulators: 1; Nominal Output Voltage: 3.3V; Output Voltage Accuracy: 1%; Radiation Hardening: No; Lead Free: Lead Free; REACH SVHC: No SVHC; ComponentLink2URL: https://datasheet.ciiva.com/46441/1840222-46441099.pdf; ComponentLink2Description: https://datasheet.ciiva.com/46441/1840222-46441099.pdf; Supplier 2: Farnell; Supplier Part Number 2: 2463932; Pricing 2: 5=0.305, 50=0.279, 100=0.15, 250=0.145, 500=0.108 (EUR); Supplier 3: Mouser; Supplier Part Number 3: 595-TLV71333PDBVR; Pricing 3: 1=0.41, 10=0.311, 50=0.311, 100=0.168, 1000=0.126, 10000=0.102 (USD)
footprint SOT23-5 (SOT23, 5-Leads, Body 2.9x1.6mm, Pitch 0.95mm, Lead Span 2.8mm, IPC Medium Density)
pins: 1 VIN, 2 GND (power), 3 Ven, 4 nc, 5 VOUT
text: <6V; 0.15A

## USB_MicroAB_Molex_47590_0001
designator CN?
Micro USB AB Receptacle Top Mount Assy; Manufacturer: MOLEX; Manufacturer Part Number: 47590-0001; Library: S_CONN_Signal; Steckverbindertyp: USB Micro-A/B; Baureihe: 47590; Ausführung: Einbaubuchse; Anzahl der Kontakte: 5; Kontaktanschluss: Löten; Steckverbindermontage: Leiterplatte; Kontaktüberzug: Gold; Kontaktmaterial: Kupfer; Anschlussart: Lötanschluss; Betriebstemperatur, max.: 85; Betriebstemperatur, min.: -20; Kontaktwiderstand: 40; Nennstrom: 1; Connector Type: Micro USB Type AB receptacle; Current Rating: 1.8 A; Gender: Female; Mounting Angle: Right; Voltage Rating: 30 VAC; Price: 0,57; HelpURL: D:\MPA_ALTIUM_LIB\Released\SCH_Mechanic\Datasheet\USB_Micro_Molex_47590.pdf; Text: Text; Qty: 1; Supplier 1: Farnell; Supplier Part Number 1: 1568022; Pricing 1: 1=0,51, 25=0,485, 50=0,378, 100=0,34, 500=0,323, 800=0,314, 800=0,302, 8000=0,271 (EUR); ComponentLink1URL: http://www.farnell.com/cad/1597781.pdf; ComponentLink1Description: http://www.farnell.com/cad/1597781.pdf; ComponentLink2URL: http://www.farnell.com/datasheets/44937.pdf; ComponentLink2Description: http://www.farnell.com/datasheets/44937.pdf; Supplier 2: Mouser; Supplier Part Number 2: 538-47590-0001; Pricing 2: 1=0.777, 10=0.685, 25=0.654, 50=0.613, 100=0.583, 250=0.521, 500=0.491, 1000=0.450, 1500=0.450 (EUR); Color: Black; Contact Plating: Gold; Packaging: Reel; Series: 47590; Termination Style: SMD; Brand: Molex; Contact Material: Copper Alloy; Product Category: USB Connectors; Standard Pack Qty: 10500; RoHS - Mouser: Y; Minimum Order Quantity: 1; Reeling: True; ComponentLink3URL: http://www.molex.com/molex/products/datasheet.jsp?part=active/0475900001_IO_CONNECTORS.xml; ComponentLink3Description: http://www.molex.com/molex/products/datasheet.jsp?part=active/0475900001_IO_CONNECTORS.xml
footprint USB_MICRO_AB_MOLEX_47590 (Micro USB AB Receptacle Top Mount Assy)
pins: 1 BUS_PWR, 2 D-, 3 D+, 4 BUS_GND, 5 Shield, H1 Case1, H2 Case2, H3 Case3, H4 Case4, H5 Case5, H6 Case6